# Altium footprint library BTS7960.PCBLIB: 6 footprints
Each footprint in its own frame and in the unit in brackets; x right, y up, seen from the top. Pads: shape width x height; smd on the part's side, far side on the other; paste and mask are expansions set on the pad; w line width, h text height; cw(c..) or ccw(c..) is an arc to the next point about the centre after c.
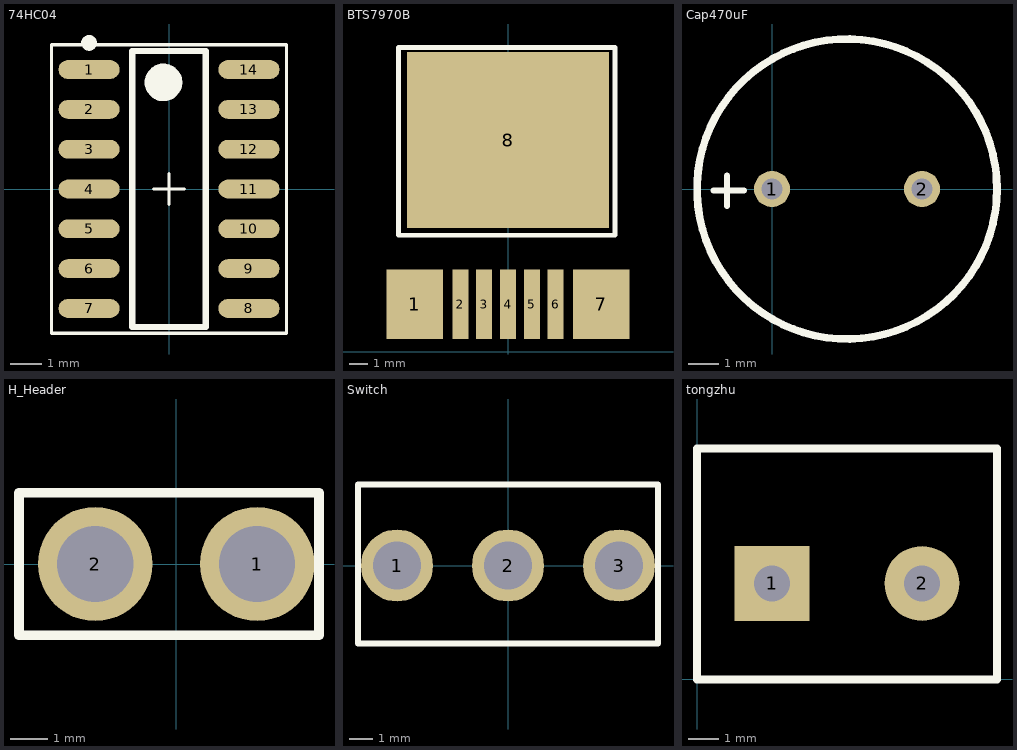
[diagram p0: the footprints below, top view; thin cyan lines are the x and y axes]

## 74HC04 [mm]
pads (15):
  oval 1.95x0.6 smd: 1(-2.55,3.81) 2(-2.55,2.54) 3(-2.55,1.27) 4(-2.55,0) 5(-2.55,-1.27) 6(-2.55,-2.54) 7(-2.55,-3.81) 8(2.55,-3.81) 9(2.55,-2.54) 10(2.55,-1.27) 11(2.55,0) 12(2.55,1.27) 13(2.55,2.54) 14(2.55,3.81)
  rect 0x0 smd: 15(0,0)
Top Overlay:
  circle w0.6: c-0.175,3.4 r0.3
  circle w0.25: c-2.55,4.66 r0.125
  lines w0.1: -0.5,0 0.5,0 ; 0,-0.5 0,0.5 ; -3.75,-4.6 -3.75,4.6 3.75,4.6 3.75,-4.6 -3.75,-4.6
  lines w0.2: -1.175,-4.4 1.175,-4.4 1.175,4.4 -1.175,4.4 -1.175,-4.4

## BTS7970B [mm]
pads (8):
  rect 3x3.7 smd: 1(-4.978,2.54) 7(4.978,2.54)
  rect 0.85x3.7 smd: 2(-2.54,2.54) 3(-1.27,2.54) 4(0,2.54) 5(1.27,2.54) 6(2.54,2.54)
  rect 10.8x9.4 smd: 8(0,11.303)
Top Overlay:
  lines w0.254: -5.842,6.223 -5.842,16.256 5.715,16.256 5.715,6.223 -5.842,6.223

## Cap470uF [mm]
pads (2):
  round 1.2 hole 0.7: 1(0,0) 2(5,0)
Top Overlay:
  circle w0.254: c2.5,0 r5
  lines w0.2: -1.956,-0.051 -0.94,-0.051 ; -1.499,-0.559 -1.499,0.457

## H_Header [mil]
pads (2):
  round 120 hole 80: 1(85,0) 2(-85,0)
Top Overlay:
  lines w10: -165,-75 -165,75 -125,75 125,75 150,75 150,-75 125,-75 -125,-75 -165,-75

## Switch [mil]
pads (3):
  round 120 hole 80: 1(-185,0) 2(0,0) 3(185,0)
Top Overlay:
  lines w10: -250,-130 -250,0 -250,135 250,135 250,-130 -250,-130

## tongzhu [mm]
pads (2):
  rect 2.5x2.5 hole 1.2: 1(2.5,3.2)
  round 2.5 hole 1.2: 2(7.5,3.2)
Top Overlay:
  lines w0.254: 0,0 0,7.7 10,7.7 10,0 0,0